# EAGLE library part IOTA (library SparkFun-RF)
SparkFun IOTA - Integrated Open-source Transceiver for ARGOS <https://www.sparkfun.com/products/17984>
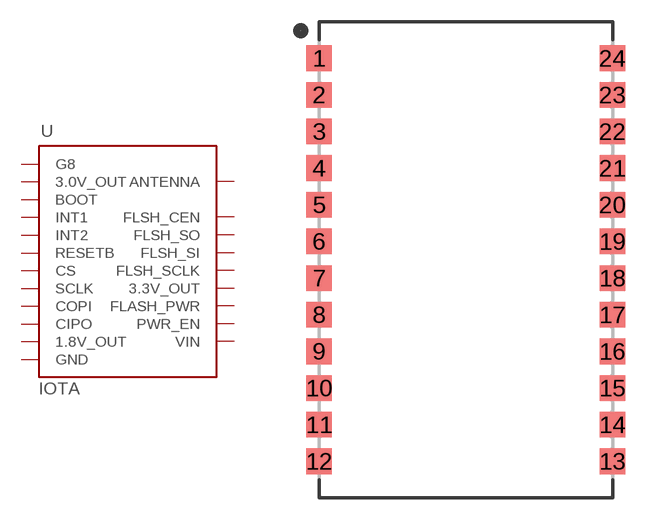
[diagram p50: symbol with the pads of IOTA; footprint IOTA]

Designator prefix -

## IOTA (PROD_ID: SUB-15839)  [IOTA]
1  G8  in
2  3.0V_OUT  out
3  BOOT  in
4  INT1  out
5  INT2  out
6  RESETB  in
7  CS  in
8  SCLK  in
9  COPI  in
10  CIPO  out
11  1.8V_OUT  out
12  GND  pwr
13  GND  pwr
14  VIN  pwr
15  PWR_EN  in
16  FLASH_PWR  in
17  3.3V_OUT  out
18  FLSH_SCLK  out
19  FLSH_SI  out
20  FLSH_SO  in
21  FLSH_CEN  out
22  GND  pwr
23  ANTENNA
24  GND  pwr

## Footprint IOTA (pad centres in mm)
ARTIC R2 Module
smd 1.778 x 1.778: 1 -10.16,13.97; 2 -10.16,11.43; 3 -10.16,8.89; 4 -10.16,6.35; 5 -10.16,3.81; 6 -10.16,1.27; 7 -10.16,-1.27; 8 -10.16,-3.81; 9 -10.16,-6.35; 10 -10.16,-8.89; 11 -10.16,-11.43; 12 -10.16,-13.97; 13 10.16,-13.97; 14 10.16,-11.43; 15 10.16,-8.89; 16 10.16,-6.35; 17 10.16,-3.81; 18 10.16,-1.27; 19 10.16,1.27; 20 10.16,3.81; 21 10.16,6.35; 22 10.16,8.89; 23 10.16,11.43; 24 10.16,13.97